# Altium footprint library PrISUm-Connectors.PcbLib: 40 footprints (part 2 of 3)
Each footprint in its own frame and in the unit in brackets; x right, y up, seen from the top. Pads: shape width x height; smd on the part's side, far side on the other; paste and mask are expansions set on the pad; w line width, h text height; cw(c..) or ccw(c..) is an arc to the next point about the centre after c.
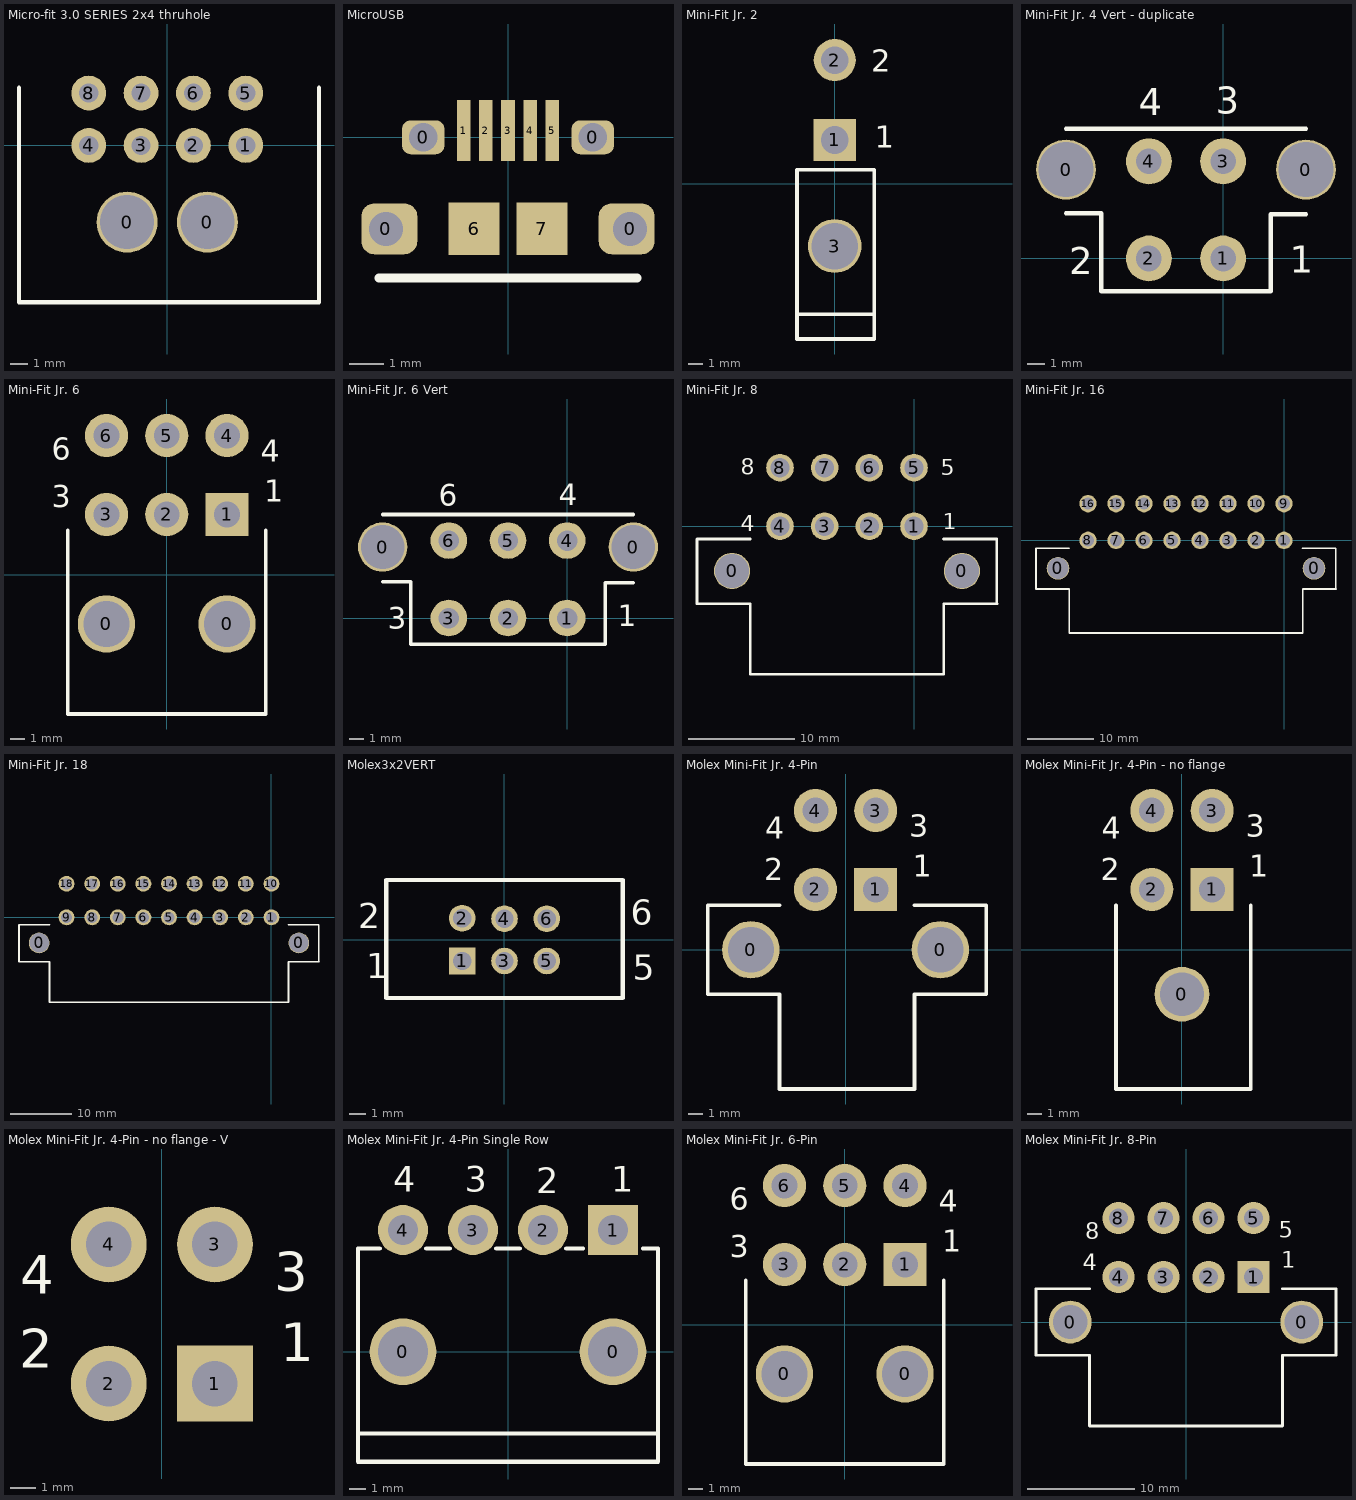
[diagram p1: the footprints below, top view; thin cyan lines are the x and y axes]

## Micro-fit 3.0 SERIES 2x4 thruhole [mm] "Right angle"
height 5.57
pads (10):
  round 3.5 hole 3.1 unplated: 0(-2.3,-4.4) 0(2.3,-4.4)
  round 2 hole 1.1: 1(4.5,0) 2(1.5,0) 3(-1.5,0) 4(-4.5,0) 5(4.5,3) 6(1.5,3) 7(-1.5,3) 8(-4.5,3)
Top Overlay:
  lines w0.254: -8.5,3.302 -8.5,-9 8.7,-9 8.7,3.302
3D body "430450800.stp": height 8.9, standoff -3.05, extent -8.075,-8.9 8.075,3.34

## MicroUSB [mm]
pads (11):
  rrect50% 1.65x1.5 hole 1 copper offset 0.1,0: 0(-3.6,-2.7)
  rrect50% 1.25x1 hole 0.85: 0(-2.5,0) 0(2.5,0)
  rrect50% 1.65x1.5 hole 1 copper offset -0.1,0: 0(3.6,-2.7)
  rect 0.4x1.8 smd: 1(-1.3,0.2) 2(-0.65,0.2) 3(0,0.2) 4(0.65,0.2) 5(1.3,0.2)
  rect 1.5x1.55 smd: 6(-1,-2.7) 7(1,-2.7)
Top Overlay:
  lines w0.254: -3.81,-4.15 3.81,-4.15
3D body "10118194-001lfc.stp": height 2.72, standoff -0.55, extent -4.025,-5.33 4.025,0.2

## Mini-Fit Jr. 2 [mm]
pads (3):
  rect 2.9x2.9 hole 1.9: 1(0,3)
  round 2.9 hole 1.9: 2(0,8.5)
  round 3.7 hole 3.2: 3(0,-4.3)
Top Overlay:
  lines w0.254: -2.6,-9 2.625,-9 ; -2.6,0.95 -2.6,-10.7 2.7,-10.7 ; -2.575,0.95 2.725,0.95 2.725,-10.7
  text "1" at 2.765,2.455 h1.52
  text "2" at 2.5,7.7 h1.52
3D body "039300020.stp": height 11.4, standoff -3.6, extent -2.6,-10.867 3.2,9.068

## Mini-Fit Jr. 4 Vert - duplicate [mm] "Mini-Fit Jr. 4 Pin Verticle Connector"
pads (6):
  round 3.4 hole 3.1: 0(-8.9,5.04) 0(4.7,5.04)
  round 2.6 hole 1.45: 1(0,0) 2(-4.2,0) 3(0,5.5) 4(-4.2,5.5)
Top Overlay:
  lines w0.254: -8.9,2.575 -6.9,2.575 ; -8.9,7.35 4.7,7.35 ; -6.9,2.55 -6.9,-1.85 2.7,-1.85 2.7,2.5 4.7,2.5
  text "1" at 3.79,-0.795 h1.52
  text "4" at -4.775,8.125 h1.52
  text "3" at -0.425,8.2 h1.52
  text "2" at -8.725,-0.9 h1.52
3D body "039299042.stp": height 12.8, standoff -3.5, extent -9.85,-2.2 5.75,8.8

## Mini-Fit Jr. 6 [mm] "6-Pin Moles Mini-Fit Jr. Right Angle Header"
pads (8):
  round 4 hole 3.2: 0(-4.2,-3.429) 0(4.2,-3.429)
  rect 3x3 hole 1.8: 1(4.2,4.2)
  round 3 hole 1.8: 2(0,4.2) 3(-4.2,4.2) 4(4.2,9.7) 5(0,9.7) 6(-4.2,9.7)
Top Overlay:
  lines w0.254: -6.9,3.1 -6.9,-3.1 -6.9,-9.7 6.9,-9.7 6.9,-3.1 6.9,3.1
  text "1" at 6.79,5.08 h1.52
  text "6" at -8,8 h1.52
  text "4" at 6.536,7.874 h1.52
  text "3" at -8,4.7 h1.52
3D body "039300060.stp": height 11.4, standoff -3.6, extent -7.025,-9.942 7.175,9.992

## Mini-Fit Jr. 6 Vert [mm] "Mini-Fit Jr. 6 Pin Verticle Connector"
pads (8):
  round 3.5 hole 3.1: 0(-13.1,5.04) 0(4.7,5.04)
  round 2.6 hole 1.45: 1(0,0) 2(-4.2,0) 3(-8.4,0) 4(0,5.5) 5(-4.2,5.5) 6(-8.4,5.5)
Top Overlay:
  lines w0.254: -13.1,2.575 -11.1,2.575 ; -13.1,7.35 4.7,7.35 ; -11.1,2.55 -11.1,-1.85 2.7,-1.85 2.7,2.5 4.7,2.5
  text "1" at 3.59,-0.57 h1.52
  text "6" at -9.125,7.975 h1.52
  text "4" at -0.6,8 h1.52
  text "3" at -12.725,-0.75 h1.52
3D body "039299062.stp": height 12.8, standoff -3.5, extent -14.1,-2.3 5.7,8.7

## Mini-Fit Jr. 8 [mm] "Mini-Fit Jr. 8 Pin Right Angle Connector"
pads (10):
  round 3.4 hole 3.2: 0(-17.1,-4.2) 0(4.5,-4.2)
  round 2.6 hole 1.8: 1(0,0) 2(-4.2,0) 3(-8.4,0) 4(-12.6,0) 5(0,5.5) 6(-4.2,5.5) 7(-8.4,5.5) 8(-12.6,5.5)
Top Overlay:
  lines w0.254: -15.4,-1.2 -20.4,-1.2 -20.4,-7.3 -15.4,-7.3 -15.4,-13.9 2.8,-13.9 2.8,-7.3 7.8,-7.3 ; 2.775,-1.2 7.775,-1.2 7.775,-7.3
  text "4" at -16.3,-0.45 h1.52
  text "5" at 2.525,4.775 h1.52
  text "8" at -16.3,4.825 h1.52
  text "1" at 2.715,-0.27 h1.52
3D body "039291087.stp": height 11.4, standoff -3.5, extent -20.275,-13.925 7.725,5.975

## Mini-Fit Jr. 16 [mm] "Mini-Fit Jr. 16 Pin Right Angle Connector"
pads (18):
  round 3.4 hole 3.2: 0(-33.9,-4.2) 0(4.5,-4.2)
  round 2.6 hole 1.8: 1(0,0) 2(-4.2,0) 3(-8.4,0) 4(-12.6,0) 5(-16.8,0) 6(-21,0) 7(-25.2,0) 8(-29.4,0) 9(0,5.5) 10(-4.2,5.5) 11(-8.4,5.5) 12(-12.6,5.5) 13(-16.8,5.5) 14(-21,5.5) 15(-25.2,5.5) 16(-29.4,5.5)
Top Overlay:
  lines w0.254: -32.2,-1.2 -37.2,-1.2 -37.2,-7.3 -32.2,-7.3 -32.2,-13.9 2.8,-13.9 2.8,-7.3 7.8,-7.3 ; 2.775,-1.2 7.775,-1.2 7.775,-7.3
3D body "039291167.stp": height 11.4, standoff -3.5, extent -37.15,-13.975 7.65,5.925

## Mini-Fit Jr. 18 [mm] "Mini-Fit Jr. 18 Pin Right Angle Connector"
pads (20):
  round 3.4 hole 3.2: 0(-38.1,-4.2) 0(4.5,-4.2)
  round 2.6 hole 1.8: 1(0,0) 2(-4.2,0) 3(-8.4,0) 4(-12.6,0) 5(-16.8,0) 6(-21,0) 7(-25.2,0) 8(-29.4,0) 9(-33.6,0) 10(0,5.5) 11(-4.2,5.5) 12(-8.4,5.5) 13(-12.6,5.5) 14(-16.8,5.5) 15(-21,5.5) 16(-25.2,5.5) 17(-29.4,5.5) 18(-33.6,5.5)
Top Overlay:
  lines w0.254: -36.4,-1.2 -41.4,-1.2 -41.4,-7.3 -36.4,-7.3 -36.4,-13.9 2.8,-13.9 2.8,-7.3 7.8,-7.3 ; 2.775,-1.2 7.775,-1.2 7.775,-7.3
3D body "039291188.stp": height 11.4, standoff -3.5, extent -41.325,-13.85 7.675,6.05

## Molex3x2VERT [mm] "CONN HEADER 6POS DUAL VERT PCB"
pads (6):
  rect 1.6x1.6 hole 1.1: 1(-2.54,-1.27)
  round 1.6 hole 1.1: 2(-2.54,1.3) 3(0,-1.27) 4(0,1.27) 5(2.54,-1.27) 6(2.54,1.27)
Top Overlay:
  lines w0.254: -7.1,-3.5 -7.1,3.6 7.1,3.6 7.1,-3.5 -7.1,-3.5
  text "2" at -8.8,0.7 h1.52
  text "6" at 7.6,0.9 h1.52
  text "1" at -8.3,-2.3 h1.52
  text "5" at 7.7,-2.4 h1.52
3D body "75869-131lf.stp": height 9.39, standoff -2.98, extent -7.415,-4.4 7.415,4.87

## Molex Mini-Fit Jr. 4-Pin [mm] "4-Pin Moles Mini-Fit Jr. Right Angle Header with PCB Flange"
pads (6):
  round 4 hole 3.2: 0(-6.6,0) 0(6.6,0)
  rect 3x3 hole 1.8: 1(2.1,4.2)
  round 3 hole 1.8: 2(-2.1,4.2) 3(2.1,9.7) 4(-2.1,9.7)
Top Overlay:
  lines w0.254: -4.6,3.1 -9.6,3.1 -9.6,-3.1 -4.6,-3.1 -4.6,-9.7 4.8,-9.7 4.8,-3.1 9.8,-3.1 9.8,3.1 4.8,3.1
  text "1" at 4.69,5.08 h1.52
  text "4" at -5.598,7.747 h1.52
  text "3" at 4.436,7.874 h1.52
  text "2" at -5.652,4.826 h1.52
3D body "039291047.stp": height 11.4, standoff -3.5, extent -9.8,-9.7 9.8,10.2

## Molex Mini-Fit Jr. 4-Pin - no flange [mm] "4-Pin Moles Mini-Fit Jr. Right Angle Header"
pads (5):
  round 3.81 hole 3.048: 0(0,-3.099)
  rect 3x3 hole 1.8: 1(2.1,4.2)
  round 3 hole 1.8: 2(-2.1,4.2) 3(2.1,9.7) 4(-2.1,9.7)
Top Overlay:
  lines w0.254: -4.6,3.1 -4.6,-3.1 -4.6,-9.7 4.8,-9.7 4.8,-3.1 4.8,3.1
  text "1" at 4.69,5.08 h1.52
  text "4" at -5.598,7.747 h1.52
  text "3" at 4.436,7.874 h1.52
  text "2" at -5.652,4.826 h1.52
3D body "039300040.stp": height 11.4, standoff -3.6, extent -4.8,-9.567 5.2,10.368

## Molex Mini-Fit Jr. 4-Pin - no flange - V [mm] "4-Pin Moles Mini-Fit Jr. Vertical"
pads (4):
  rect 3x3 hole 1.8: 1(2.1,4.2)
  round 3 hole 1.8: 2(-2.1,4.2) 3(2.1,9.7) 4(-2.1,9.7)
Top Overlay:
  text "1" at 4.69,5.08 h1.52
  text "4" at -5.598,7.747 h1.52
  text "3" at 4.436,7.874 h1.52
  text "2" at -5.652,4.826 h1.52
3D body "039281043.stp": height 12.8, standoff -3.5, extent -5.2,2 5.2,13

## Molex Mini-Fit Jr. 4-Pin Single Row [mm] "4-Pin Moles Mini-Fit Jr. Right Angle Header"
height 5.4
pads (6):
  round 4 hole 3: 0(-6.3,0) 0(6.3,0)
  rect 3x3 hole 1.8: 1(6.3,7.3)
  round 3 hole 1.8: 2(2.1,7.3) 3(-2.1,7.3) 4(-6.3,7.3)
Top Overlay:
  lines w0.254: -9,-4.9 9,-4.9 ; -7.7,6.2 -9,6.2 -9,-6.6 9,-6.6 9,6.2 8.1,6.2 ; -4.9,6.2 -3.5,6.2 ; -0.7,6.2 0.7,6.2 ; 3.5,6.2 4.5,6.2
  text "1" at 6.2,9.6 h1.52
  text "4" at -6.9,9.6 h1.52
  text "3" at -2.6,9.6 h1.52
  text "2" at 1.7,9.5 h1.52
3D body "039303045.stp": height 7.2, standoff -3.5, extent -9,-6.6 9,7.8

## Molex Mini-Fit Jr. 6-Pin [mm] "6-Pin Moles Mini-Fit Jr. Right Angle Header with PCB Flange"
pads (8):
  round 4 hole 3.2: 0(-4.2,-3.429) 0(4.2,-3.429)
  rect 3x3 hole 1.8: 1(4.2,4.2)
  round 3 hole 1.8: 2(0,4.2) 3(-4.2,4.2) 4(4.2,9.7) 5(0,9.7) 6(-4.2,9.7)
Top Overlay:
  lines w0.254: -6.9,3.1 -6.9,-3.1 -6.9,-9.7 6.9,-9.7 6.9,-3.1 6.9,3.1
  text "1" at 6.79,5.08 h1.52
  text "6" at -8,8 h1.52
  text "4" at 6.536,7.874 h1.52
  text "3" at -8,4.7 h1.52
3D body "039300060.stp": height 11.4, standoff -3.6, extent -6.9,-9.7 7.3,10.235

## Molex Mini-Fit Jr. 8-Pin [mm] "8-Pin Moles Mini-Fit Jr. Right Angle Header with PCB Flange"
pads (10):
  round 4 hole 3.2: 0(-10.8,0) 0(10.8,0)
  rect 3x3 hole 1.8: 1(6.3,4.2)
  round 3 hole 1.8: 2(2.1,4.2) 3(-2.1,4.2) 4(-6.3,4.2) 5(6.3,9.7) 6(2.1,9.7) 7(-2.1,9.7) 8(-6.3,9.7)
Top Overlay:
  lines w0.254: -9,3.1 -14,3.1 -14,-3.1 -9,-3.1 -9,-9.7 9,-9.7 9,-3.1 14,-3.1 14,3.1 9,3.1
  text "4" at -9.652,4.826 h1.52
  text "5" at 8.636,7.874 h1.52
  text "8" at -9.398,7.747 h1.52
  text "1" at 8.89,5.08 h1.52
3D body "039291087.stp": height 11.4, standoff -3.5, extent -14,-9.7 14,10.2